# EAGLE library part C610_X99 (library X99 Chipset)
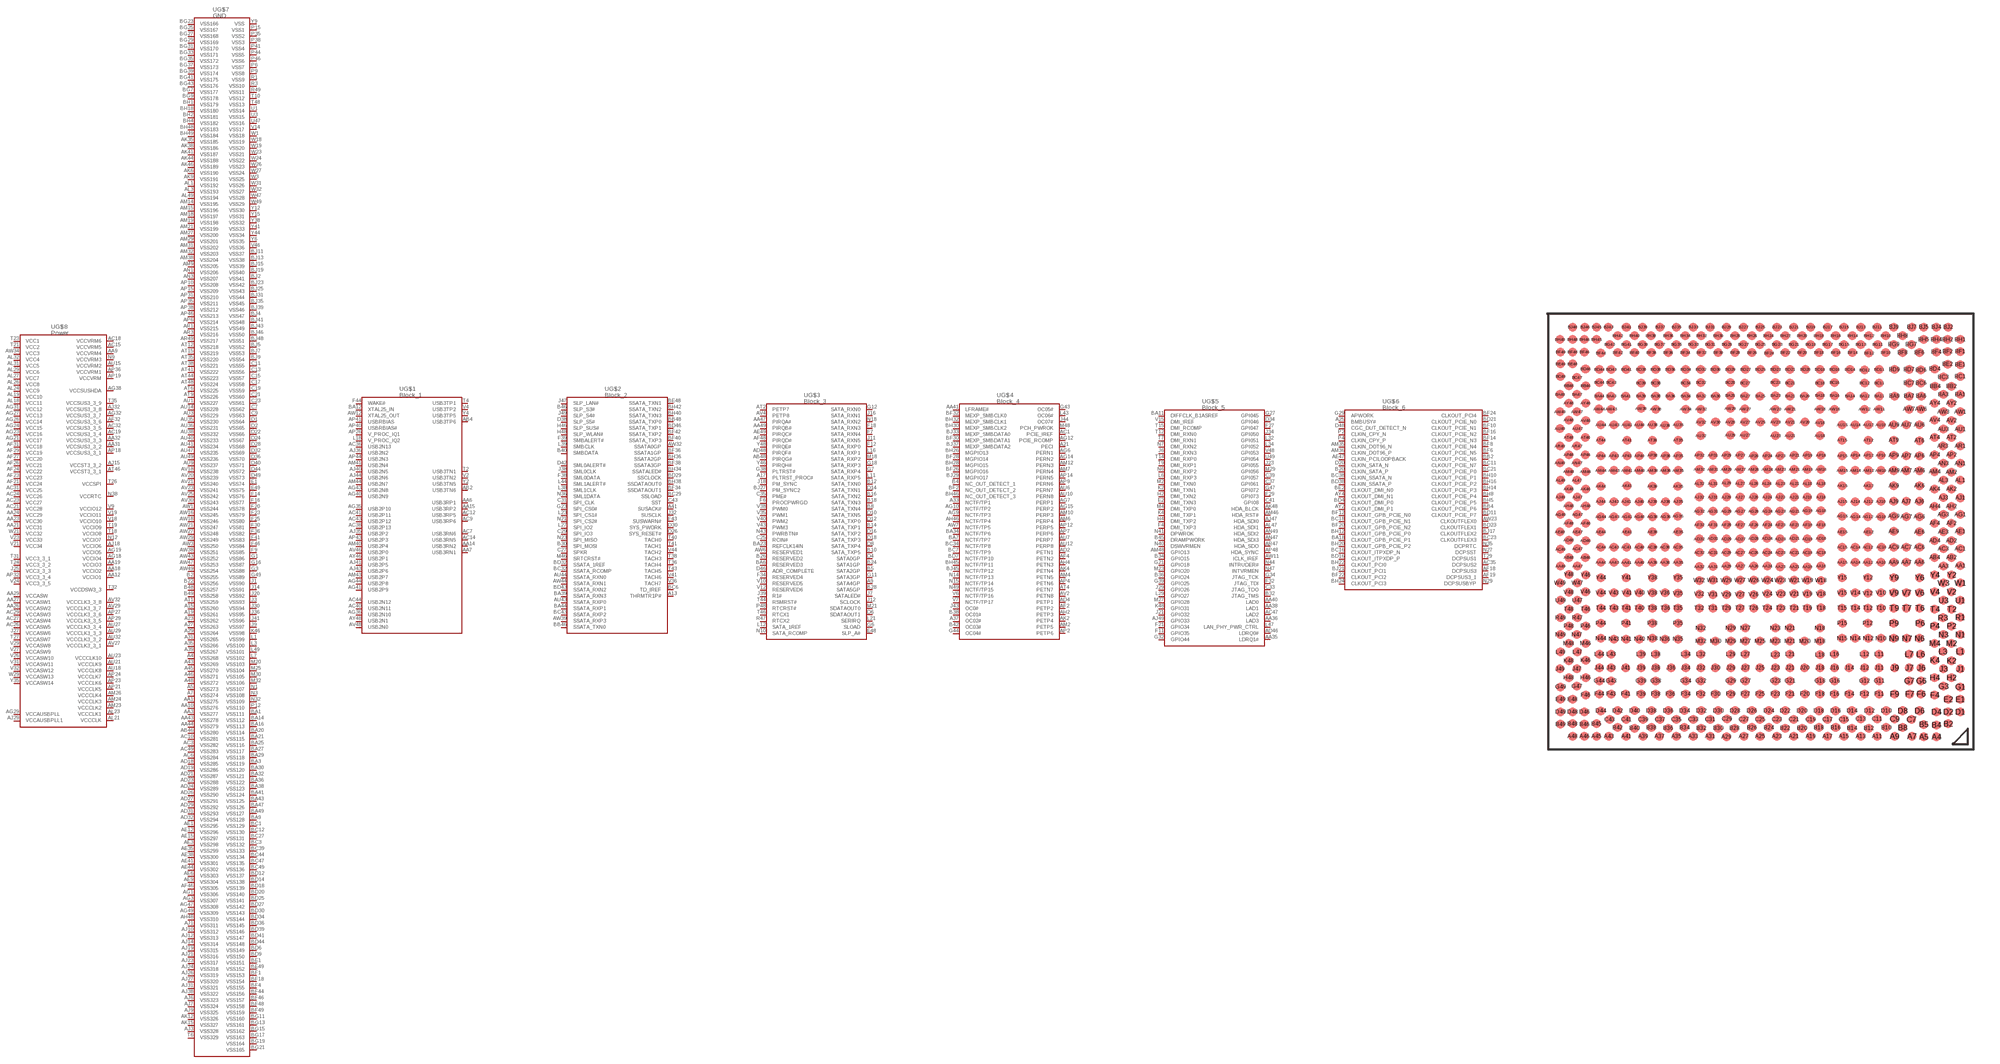
[diagram p0: symbol with the pads of X99; footprint X99]

Designator prefix -; gates G$1=C610_1 G$2=C610_2 G$3=C610_3 G$4=C610_4 G$5=C610_5 G$6=C610_6 G$7=C610_GND G$8=C610_PWR

## C610_X99  [X99]
A4  G$7:VSS268
A5  G$7:VSS273
A7  G$7:VSS274
A9  G$3:SATA4GP
A11  G$7:VSS259
A13  G$2:THRMTR1P#
A15  G$7:VSS260
A17  G$3:PLTRST_PROC#
A19  G$7:VSS261
A21  G$4:PECI
A23  G$7:VSS262
A25  G$6:BMBUSY#
A27  G$7:VSS263
A29  G$7:VSS264
A31  G$7:VSS265
A33  G$4:NCTF/TP1
A35  G$7:VSS266
A37  G$4:OC02#
A39  G$7:VSS267
A41  G$2:SUSACK#
A43  G$7:VSS269
A45  G$7:VSS270
A46  G$7:VSS271
A48  G$7:VSS272
AA1  G$7:VSS275
AA3  G$7:VSS277
AA6  G$1:USB3RP1
AA7  G$1:USB3RN1
AA9  G$8:VCCVRM4
AA10  G$7:VSS276
AA12  G$8:VCCIO1
AA14  G$1:USB3RN2
AA15  G$1:USB3RP2
AA18  G$8:VCCIO2
AA19  G$8:VCCIO3
AA21  G$8:VCC31
AA23  G$8:VCC30
AA24  G$8:VCC29
AA26  G$8:VCCASW2
AA27  G$8:VCCASW1
AA29  G$8:VCCASW
AA31  G$8:VCCSUS3_3_2
AA32  G$8:VCCSUS3_3_3
AA35  G$5:LDRQ1#
AA36  G$5:LAD3
AA38  G$5:LAD1
AA40  G$5:LAD0
AA41  G$4:LFRAME#
AA43  G$7:VSS278
AA44  G$7:VSS279
AA47  G$3:PIRQA#
AA49  G$3:PIRQB#
AB2  G$1:USB3TN6
AB4  G$1:USB3TP6
AB46  G$7:VSS280
AB48  G$3:PIRQG#
AC1  G$4:PCIE_IREF
AC3  G$7:VSS282
AC6  G$7:VSS284
AC7  G$1:USB3RN6
AC9  G$1:USB3RP6
AC10  G$7:VSS281
AC12  G$1:USB3RP5
AC14  G$1:USB3RN5
AC15  G$8:VCCVRM5
AC18  G$8:VCCVRM6
AC19  G$8:VCCSUS3_3_4
AC21  G$8:VCC28
AC23  G$8:VCC27
AC24  G$8:VCC26
AC26  G$8:VCCASW5
AC27  G$8:VCCASW4
AC29  G$8:VCCASW3
AC31  G$8:VCC25
AC32  G$8:VCCSUS3_3_5
AC35  G$6:DCPSUS2
AC36  G$1:USB2N13
AC38  G$1:USB2P13
AC40  G$1:USB2N11
AC41  G$1:USB2P11
AC43  G$1:USB2P12
AC44  G$1:USB2N12
AC47  G$5:LAD2
AC49  G$7:VSS283
AD2  G$4:PETN1
AD4  G$4:PETP1
AD18  G$7:VSS285
AD19  G$7:VSS286
AD21  G$7:VSS287
AD23  G$7:VSS288
AD24  G$7:VSS289
AD26  G$7:VSS290
AD27  G$7:VSS291
AD29  G$7:VSS292
AD31  G$7:VSS293
AD32  G$7:VSS294
AD46  G$5:LDRQ0#
AD48  G$3:PIRQF#
AE1  G$7:VSS295
AE3  G$7:VSS298
AE6  G$7:VSS303
AE9  G$7:VSS304
AE12  G$7:VSS296
AE15  G$7:VSS297
AE35  G$7:VSS299
AE38  G$7:VSS300
AE41  G$7:VSS301
AE44  G$7:VSS302
AE47  G$6:CLKIN_PCILOOPBACK
AE49  G$3:PIRQC#
AF2  G$4:PETP2
AF4  G$4:PETN2
AF18  G$6:DCPSUS3
AF19  G$6:DCPSUS3_1
AF21  G$8:VCC24
AF23  G$8:VCC23
AF24  G$8:VCC22
AF26  G$8:VCC21
AF27  G$8:VCC20
AF29  G$8:VCC19
AF31  G$8:VCC18
AF32  G$8:VCCSUS3_3_6
AF46  G$7:VSS305
AF48  G$3:PIRQD#
AG1  G$7:VSS306
AG3  G$7:VSS307
AG6  G$4:PERN1
AG7  G$4:PERP1
AG9  G$4:NCTF/TP3
AG10  G$4:NCTF/TP2
AG12  G$4:PCIE_RCOMP
AG14  G$4:PERN2
AG15  G$4:PERP2
AG18  G$8:VCCIO4
AG19  G$8:VCCIO5
AG21  G$8:VCC17
AG23  G$8:VCC16
AG24  G$8:VCC15
AG26  G$8:VCC14
AG27  G$8:VCC13
AG29  G$8:VCCAUSBPLL
AG31  G$8:VCC12
AG32  G$8:VCCSUS3_3_7
AG35  G$1:USB2P10
AG36  G$1:USB2N10
AG38  G$8:VCCSUSHDA
AG40  G$1:USB2N9
AG41  G$1:USB2P9
AG43  G$1:USB2N8
AG44  G$1:USB2P8
AG47  G$7:VSS308
AG49  G$7:VSS309
AH2  G$4:PETP3
AH4  G$4:PETN3
AH46  G$4:NCTF/TP4
AH48  G$7:VSS310
AJ1  G$7:VSS311
AJ3  G$7:VSS328
AJ6  G$7:VSS323
AJ7  G$7:VSS324
AJ9  G$7:VSS325
AJ10  G$7:VSS312
AJ12  G$7:VSS313
AJ14  G$7:VSS314
AJ15  G$8:VCCST3_3_2
AJ18  G$8:VCCIO6
AJ19  G$7:VSS315
AJ21  G$7:VSS316
AJ23  G$7:VSS317
AJ24  G$7:VSS318
AJ26  G$7:VSS319
AJ27  G$7:VSS320
AJ29  G$8:VCCAUSBPLL1
AJ31  G$7:VSS321
AJ32  G$8:VCCSUS3_3_8
AJ35  G$1:USB2P2
AJ36  G$1:USB2N2
AJ38  G$7:VSS322
AJ40  G$1:USB2N5
AJ41  G$1:USB2P5
AJ43  G$1:USB2P6
AJ44  G$1:USB2N6
AJ47  G$5:HDA_SDI0
AJ49  G$5:GPIO33
AK2  G$4:PETP4
AK4  G$4:PETN4
AK6  G$7:VSS190
AK9  G$7:VSS191
AK12  G$7:VSS326
AK15  G$7:VSS327
AK35  G$7:VSS185
AK38  G$7:VSS186
AK41  G$7:VSS187
AK44  G$7:VSS188
AK46  G$7:VSS189
AK48  G$5:HDA_BLCK
AL1  G$7:VSS192
AL3  G$7:VSS193
AL18  G$8:VCC11
AL19  G$8:VCC10
AL21  G$8:VCCCLK
AL23  G$8:VCCCLK1
AL24  G$8:VCC9
AL26  G$8:VCC8
AL27  G$8:VCC7
AL29  G$8:VCC6
AL31  G$8:VCC5
AL32  G$8:VCC4
AL47  G$5:HDA_SDI1
AL49  G$7:VSS194
AM2  G$4:PETP5
AM4  G$4:PETN5
AM6  G$4:PERP4
AM7  G$4:PERN4
AM9  G$7:VSS205
AM10  G$4:PERP3
AM12  G$4:PERN3
AM14  G$7:VSS195
AM15  G$7:VSS196
AM18  G$7:VSS197
AM19  G$7:VSS198
AM21  G$7:VSS199
AM23  G$8:VCCCLK2
AM24  G$8:VCCCLK3
AM26  G$8:VCCCLK4
AM27  G$7:VSS200
AM29  G$7:VSS201
AM31  G$7:VSS202
AM32  G$7:VSS203
AM35  G$6:CLKIN_DOT96_N
AM36  G$6:CLKIN_DOT96_P
AM38  G$7:VSS204
AM40  G$1:USB2P4
AM41  G$1:USB2N4
AM43  G$1:USB2P7
AM44  G$1:USB2N7
AM46  G$5:HDA_RST#
AM48  G$5:GPIO13
AN1  G$7:VSS206
AN3  G$7:VSS207
AN47  G$5:HDA_SDI3
AN49  G$5:HDA_SDI2
AP2  G$4:PETP6
AP4  G$4:PETN6
AP6  G$7:VSS214
AP7  G$4:PERP6
AP9  G$4:PERN6
AP10  G$7:VSS208
AP12  G$4:PERP5
AP14  G$4:PERN5
AP15  G$7:VSS209
AP18  G$8:VCCSUS3_3_1
AP19  G$8:VCCVRM
AP21  G$8:VCCCLK5
AP23  G$8:VCCCLK6
AP24  G$8:VCCCLK7
AP26  G$1:V_PROC_IQ1
AP27  G$8:VCCCLK3_3_6
AP29  G$8:VCCCLK3_3_5
AP31  G$7:VSS210
AP32  G$8:VCC3_3_4
AP35  G$7:VSS211
AP36  G$8:VCCVRM1
AP38  G$7:VSS212
AP40  G$1:USBRBIAS#
AP41  G$1:USBRBIAS
AP43  G$1:USB2P3
AP44  G$1:USB2N3
AP46  G$7:VSS213
AP48  G$5:HDA_SYNC
AR1  G$7:VSS215
AR3  G$7:VSS216
AR47  G$5:HDA_SDO
AR49  G$7:VSS217
AT2  G$3:PETP7
AT4  G$4:PETN7
AT6  G$7:VSS225
AT9  G$7:VSS226
AT12  G$7:VSS218
AT15  G$7:VSS219
AT35  G$7:VSS220
AT38  G$7:VSS221
AT41  G$7:VSS222
AT44  G$7:VSS223
AT46  G$8:VCCST3_3_1
AT48  G$7:VSS224
AU1  G$7:VSS227
AU3  G$7:VSS229
AU6  G$4:PERN7
AU7  G$4:PERP7
AU9  G$7:VSS237
AU10  G$4:PERN8
AU12  G$4:PERP8
AU14  G$7:VSS228
AU15  G$8:VCCVRM2
AU18  G$8:VCCCLK8
AU21  G$8:VCCCLK9
AU23  G$8:VCCCLK10
AU27  G$8:VCCCLK3_3_4
AU29  G$8:VCCCLK3_3_3
AU32  G$8:VCCCLK3_3_2
AU35  G$7:VSS230
AU36  G$7:VSS231
AU38  G$7:VSS232
AU40  G$7:VSS233
AU41  G$7:VSS234
AU43  G$2:SSATA_RXP0
AU44  G$2:SSATA_RXN0
AU47  G$7:VSS235
AU49  G$7:VSS236
AV2  G$4:PETN8
AV4  G$3:PETP8
AV18  G$7:VSS238
AV20  G$7:VSS239
AV21  G$7:VSS240
AV23  G$7:VSS241
AV25  G$7:VSS242
AV27  G$8:VCCCLK3_3_1
AV29  G$8:VCCCLK3_3_7
AV30  G$7:VSS243
AV32  G$8:VCCCLK3_3_8
AV46  G$1:USB2P0
AV48  G$1:USB2N0
AW1  G$7:VSS244
AW3  G$7:VSS250
AW6  G$3:RESERVED1
AW7  G$4:NCTF/TP5
AW11  G$5:ICLK_IREF
AW12  G$1:XTAL25_OUT
AW16  G$7:VSS245
AW18  G$7:VSS246
AW21  G$7:VSS247
AW23  G$6:CLKOUTFLEX0
AW27  G$7:VSS248
AW29  G$7:VSS249
AW32  G$2:SSATA0GP
AW34  G$8:VCC3
AW38  G$7:VSS251
AW39  G$2:SSATA_RXP3
AW43  G$7:VSS252
AW44  G$2:SSATA_RXN1
AW47  G$7:VSS253
AW49  G$7:VSS254
AY2  G$6:CLKOUT_DMI_P1
AY4  G$6:CLKOUT_DMI_N1
AY46  G$1:USB2P1
AY48  G$1:USB2N1
B2  G$7:VSS255
B4  G$4:NC_OUT_DETECT_1
B5  G$3:SATA2GP
B8  G$3:SATA_TXN4
B10  G$3:SATA_TXP5
B12  G$3:SATA_TXN0
B14  G$3:SATA_TXP1
B16  G$3:SATA_TXN2
B18  G$3:SATA_TXN3
B20  G$6:CLKIN_SATA_P
B22  G$7:VSS256
B24  G$3:SATA1GP
B26  G$3:RESERVED2
B28  G$3:SATA5GP
B30  G$2:SPI_MOSI
B32  G$5:JTAG_TMS
B34  G$5:GPIO15
B36  G$5:GPIO24
B38  G$4:OC01#
B40  G$2:SMBDATA
B42  G$4:OC03#
B45  G$5:DRAMPWORK
B46  G$2:SLP_S3#
B48  G$7:VSS257
B49  G$7:VSS258
BA1  G$7:VSS111
BA3  G$7:VSS119
BA6  G$3:RESERVED3
BA7  G$4:NCTF/TP7
BA9  G$7:VSS128
BA11  G$5:DIFFCLK_B1ASREF
BA12  G$1:XTAL25_IN
BA14  G$7:VSS112
BA16  G$7:VSS113
BA18  G$6:CLKOUT_GPB_PCIE_P1
BA20  G$7:VSS114
BA21  G$7:VSS115
BA23  G$3:REFCLK14IN
BA25  G$7:VSS116
BA27  G$7:VSS117
BA29  G$7:VSS118
BA30  G$7:VSS120
BA32  G$7:VSS121
BA34  G$4:NCTF/TP6
BA36  G$7:VSS122
BA38  G$7:VSS123
BA39  G$2:SSATA_RXN3
BA41  G$7:VSS124
BA43  G$7:VSS125
BA44  G$2:SSATA_RXP1
BA47  G$7:VSS126
BA49  G$7:VSS127
BB2  G$6:CLKOUT_PCIE_N6
BB4  G$6:CLKOUT_PCIE_P6
BB46  G$2:SSATA_TXN0
BB48  G$2:SSATA_TXP0
BC1  G$7:VSS129
BC3  G$7:VSS132
BC6  G$2:TD_IREF
BC7  G$4:NCTF/TP9
BC11  G$6:CLKOUT_PCIE_N7
BC12  G$7:VSS130
BC16  G$6:CLKOUT_ITPXDP_N
BC18  G$6:CLKOUT_GPB_PCIE_N1
BC21  G$6:CLKOUT_PCIE_P0
BC23  G$6:CLKOUTFLEX3
BC27  G$7:VSS131
BC29  G$2:SSLOAD
BC32  G$2:SSATA_RCOMP
BC34  G$4:NCTF/TP8
BC38  G$6:CLKIN_SSATA_N
BC39  G$7:VSS133
BC43  G$2:SSATA_RXP2
BC44  G$7:VSS134
BC47  G$7:VSS135
BC49  G$7:VSS136
BD4  G$6:CLKOUT_DMI_P0
BD6  G$7:VSS149
BD7  G$4:NCTF/TP10
BD9  G$7:VSS150
BD11  G$6:CLKOUT_PCIE_P7
BD12  G$7:VSS137
BD14  G$7:VSS138
BD16  G$6:CLKOUT_ITPXDP_P
BD18  G$7:VSS139
BD20  G$7:VSS140
BD21  G$6:CLKOUT_PCIE_N0
BD23  G$6:CLKOUTFLEX1
BD25  G$7:VSS141
BD27  G$7:VSS142
BD29  G$2:SSCLOCK
BD30  G$7:VSS143
BD32  G$2:SSATA_1REF
BD34  G$7:VSS144
BD36  G$7:VSS145
BD38  G$6:CLKIN_SSATA_P
BD39  G$7:VSS146
BD41  G$7:VSS147
BD43  G$2:SSATA_RXN2
BD44  G$7:VSS148
BD46  G$2:SSATA_TXP1
BE1  G$7:VSS151
BE2  G$6:CLKOUT_DMI_N0
BE48  G$2:SSATA_TXN1
BE49  G$7:VSS152
BF1  G$7:VSS153
BF2  G$4:NC_OUT_DETECT_2
BF4  G$7:VSS155
BF6  G$6:CLKOUT_PCIE_N5
BF8  G$6:CLKOUT_PCIE_N4
BF10  G$6:CLKOUT_PCIE_N1
BF12  G$6:CLKOUT_GPB_PCIE_N0
BF14  G$6:CLKOUT_PCIE_N3
BF16  G$6:CLKOUT_PCIE_N2
BF18  G$7:VSS154
BF20  G$6:CLKOUT_GPB_PCIE_N2
BF22  G$6:CLKOUT_PCI2
BF24  G$6:CLKOUT_PCI4
BF26  G$4:MGPIO16
BF28  G$4:MGPIO14
BF30  G$4:MEXP_SMBDATA1
BF32  G$4:MEXP_SMBCLK0
BF34  G$2:SSDATAOUT1
BF36  G$2:SSATA1GP
BF38  G$2:SSATA3GP
BF40  G$2:SSATA_TXP3
BF42  G$2:SSATA_TXP2
BF44  G$7:VSS156
BF46  G$7:VSS157
BF48  G$7:VSS158
BF49  G$7:VSS159
BG7  G$7:VSS177
BG9  G$7:VSS178
BG11  G$7:VSS160
BG13  G$7:VSS161
BG15  G$7:VSS162
BG17  G$7:VSS163
BG19  G$7:VSS164
BG21  G$7:VSS165
BG23  G$7:VSS166
BG25  G$7:VSS167
BG27  G$7:VSS168
BG29  G$7:VSS169
BG31  G$7:VSS170
BG33  G$7:VSS171
BG35  G$7:VSS172
BG37  G$7:VSS173
BG39  G$7:VSS174
BG41  G$7:VSS175
BG43  G$7:VSS176
BH1  G$7:VSS179
BH2  G$7:VSS181
BH4  G$7:VSS182
BH5  G$6:CLKOUT_PCIE_P5
BH8  G$6:CLKOUT_PCIE_P4
BH10  G$6:CLKOUT_PCIE_P1
BH12  G$6:CLKOUT_GPB_PCIE_P0
BH14  G$6:CLKOUT_PCIE_P3
BH16  G$6:CLKOUT_PCIE_P2
BH18  G$7:VSS180
BH20  G$6:CLKOUT_GPB_PCIE_P2
BH22  G$6:CLKOUT_PCI0
BH24  G$6:CLKOUT_PCI3
BH26  G$4:MGPIO13
BH28  G$4:MGPIO15
BH30  G$4:MEXP_SMBCLK2
BH32  G$4:MEXP_SMBCLK1
BH34  G$2:SSATALED#
BH36  G$2:SSATA2GP
BH38  G$2:SSDATAOUT0
BH40  G$2:SSATA_TXN3
BH42  G$2:SSATA_TXN2
BH45  G$4:NCTF/TP11
BH46  G$4:NC_OUT_DETECT_3
BH48  G$7:VSS183
BH49  G$7:VSS184
BJ2  G$7:VSS41
BJ4  G$7:VSS47
BJ5  G$7:VSS52
BJ7  G$7:VSS53
BJ9  G$7:VSS54
BJ11  G$7:VSS37
BJ13  G$7:VSS38
BJ15  G$7:VSS39
BJ17  G$6:CLKOUTFLEX2
BJ19  G$7:VSS40
BJ21  G$6:CLKOUT_PCI1
BJ23  G$7:VSS42
BJ25  G$7:VSS43
BJ27  G$3:PM_SYNC2
BJ29  G$4:MGPIO17
BJ31  G$7:VSS44
BJ33  G$4:MEXP_SMBDATA0
BJ35  G$7:VSS45
BJ37  G$4:MEXP_SMBDATA2
BJ39  G$7:VSS46
BJ41  G$7:VSS48
BJ43  G$7:VSS49
BJ45  G$4:NCTF/TP12
BJ46  G$7:VSS50
BJ48  G$7:VSS51
C7  G$7:VSS62
C9  G$7:VSS63
C11  G$7:VSS55
C13  G$7:VSS56
C15  G$7:VSS57
C17  G$7:VSS58
C19  G$7:VSS59
C21  G$7:VSS60
C23  G$7:VSS61
C25  G$3:RCIN#
C27  G$2:SPKR
C29  G$2:SPI_IO3
C31  G$2:SPI_CLK
C33  G$5:JTAG_TDO
C35  G$3:PME#
C37  G$5:GPI061
C39  G$5:GPI057
C41  G$5:GPI08
C43  G$2:SST
D1  G$7:VSS64
D2  G$7:VSS65
D4  G$3:SATA0GP
D6  G$3:SDATAOUT1
D8  G$3:SATA_TXP4
D10  G$3:SATA_TXN5
D12  G$3:SATA_TXP0
D14  G$3:SATA_TXN1
D16  G$3:SATA_TXP2
D18  G$3:SATA_TXP3
D20  G$6:CLKIN_SATA_N
D22  G$7:VSS66
D24  G$7:VSS67
D26  G$2:SYS_RESET#
D28  G$7:VSS68
D30  G$2:SYS_PWORK
D32  G$7:VSS69
D34  G$5:GPI046
D36  G$7:VSS70
D38  G$2:SLP_S5#
D40  G$7:VSS71
D42  G$2:SML0ALERT#
D44  G$7:VSS72
D46  G$3:ADR_COMPLETE
D48  G$6:CGC_DUT_DETECT_N
D49  G$7:VSS73
E1  G$7:VSS74
E2  G$5:DMI_TXN3
E48  G$3:SLP_A#
E49  G$7:VSS75
F4  G$5:DMI_TXP3
F6  G$3:PROCPWRGD
F7  G$3:SATA_RXN4
F9  G$7:VSS85
F11  G$5:GPIO35
F12  G$3:SATA_RXP0
F14  G$7:VSS76
F16  G$7:VSS77
F18  G$3:SATA_RXN3
F20  G$7:VSS78
F21  G$5:GPIO34
F23  G$7:VSS79
F25  G$7:VSS80
F27  G$5:GPI047
F29  G$5:GPI073
F30  G$7:VSS81
F32  G$5:JTAG_TDI
F34  G$3:RESERVED4
F36  G$7:VSS82
F38  G$2:SML0DATA
F39  G$2:SMBALERT#
F41  G$7:VSS83
F43  G$2:SUSWARN#
F44  G$1:WAKE#
F46  G$7:VSS84
G1  G$7:VSS86
G3  G$7:VSS88
G6  G$3:SLOAD
G7  G$3:SATA_RXP4
G11  G$3:SATA3GP
G12  G$3:SATA_RXN0
G16  G$7:VSS87
G18  G$3:SATA_RXP3
G21  G$5:GPIO18
G23  G$2:SPI_CS0#
G27  G$5:GPI045
G29  G$6:APWORK
G32  G$5:GPIO44
G34  G$5:JTAG_TCK
G38  G$3:PLTRST#
G39  G$5:GPIO25
G43  G$4:OC05#
G44  G$4:OC04#
G47  G$5:GPI072
G49  G$7:VSS89
H2  G$5:DMI_TXN2
H4  G$5:DMI_TXP2
H46  G$2:SLP_SUS#
H48  G$2:SLP_WLAN#
J1  G$7:VSS90
J3  G$7:VSS93
J6  G$5:DMI_RXN3
J7  G$3:SATALED#
J9  G$7:VSS97
J11  G$3:SATA_RXN5
J12  G$3:SCLOCK
J14  G$7:VSS91
J16  G$3:SATA_RXN1
J18  G$3:PM_SYNC
J20  G$7:VSS92
J21  G$5:GPIO32
J23  G$5:GPI055
J25  G$8:VCC3_3_3
J27  G$8:VCCASW6
J29  G$5:GPIO26
J30  G$7:VSS94
J32  G$2:SUSCLK
J34  G$5:GPI050
J36  G$7:VSS95
J38  G$2:SML0CLK
J39  G$3:R1#
J41  G$7:VSS96
J43  G$4:OC0#
J44  G$4:OC07#
J47  G$2:SLP_LAN#
J49  G$2:SLP_S4#
K2  G$5:DMI_TXN1
K4  G$5:DMI_TXP1
K46  G$7:VSS98
K48  G$5:GPIO31
L1  G$7:VSS99
L3  G$7:VSS100
L6  G$5:DMI_RXP3
L7  G$7:VSS102
L11  G$3:SATA_RXP5
L12  G$3:SATA_1REF
L16  G$3:SATA_RXP1
L18  G$1:V_PROC_IQ2
L21  G$3:SERIRQ
L23  G$2:SPI_CS1#
L27  G$2:SPI_IO2
L29  G$5:GPIO27
L32  G$5:GPI051
L34  G$5:GPI052
L38  G$2:SML1CLK
L39  G$2:SMBCLK
L43  G$4:OC06#
L44  G$2:SML1ALERT#
L47  G$5:LAN_PHY_PWR_CTRL
L49  G$7:VSS101
M2  G$5:DMI_TXN0
M4  G$5:DMI_TXP0
M18  G$3:SATA_RXP2
M20  G$7:VSS103
M21  G$3:SDATAOUT0
M23  G$5:GPIO20
M25  G$7:VSS104
M27  G$5:GPIO28
M29  G$5:GPI056
M30  G$7:VSS105
M32  G$7:VSS106
M46  G$2:SRTCRST#
M48  G$4:PCH_PWROK
N1  G$7:VSS107
N3  G$7:VSS108
N6  G$5:DMI_RXP2
N7  G$5:DMI_RXN2
N9  G$8:VCCVRM3
N10  G$3:SATA_RCOMP
N12  G$8:VCCIO7
N14  G$4:NCTF/TP13
N15  G$4:NCTF/TP14
N18  G$3:SATA_RXN2
N21  G$2:SPI_CS2#
N23  G$2:SPI_MISO
N27  G$6:DCPSST
N29  G$6:DCPSUSBYP
N32  G$7:VSS109
N35  G$6:DCPRTC
N36  G$2:SML1DATA
N38  G$8:VCCRTC
N40  G$5:DSWVRMEN
N41  G$5:DPWROK
N43  G$3:PWRBTN#
N44  G$5:INTRUDER#
N47  G$5:INTVRMEN
N49  G$4:NCTF/TP15
P2  G$6:CLKIN_CPY_N
P4  G$6:CLKIN_CPY_P
P6  G$7:VSS7
P9  G$7:VSS8
P12  G$7:VSS110
P15  G$7:VSS1
P35  G$7:VSS2
P38  G$7:VSS3
P41  G$7:VSS4
P44  G$7:VSS5
P46  G$7:VSS6
P48  G$3:RTCRST#
R1  G$7:VSS9
R3  G$7:VSS10
R47  G$3:RTCX2
R49  G$7:VSS11
T2  G$1:USB3TN1
T4  G$1:USB3TP1
T6  G$7:VSS329
T7  G$5:DMI_RXN1
T9  G$5:DMI_RXP1
T10  G$7:VSS12
T12  G$5:DMI_RXN0
T14  G$5:DMI_RXP0
T15  G$5:DMI_RCOMP
T18  G$8:VCCIO8
T19  G$8:VCCIO9
T21  G$8:VCC2
T23  G$8:VCC1
T24  G$8:VCC3_3_2
T26  G$8:VCCSPI
T27  G$8:VCCASW7
T29  G$6:DCPSUS1
T31  G$8:VCC3_3_1
T32  G$8:VCCDSW3_3
T35  G$8:VCCSUS3_3_9
T36  G$2:TACH4
T38  G$2:TACH3
T40  G$2:TACH0
T41  G$2:TACH1
T43  G$2:TACH5
T44  G$3:RSMRST#
T46  G$3:RTCX1
T48  G$7:VSS13
U1  G$7:VSS14
U3  G$7:VSS15
U47  G$7:VSS16
U49  G$5:GPI054
V2  G$1:USB3TN2
V4  G$1:USB3TP2
V6  G$4:NCTF/TP16
V7  G$4:NCTF/TP17
V9  G$8:VCCIO12
V10  G$3:RESERVED5
V12  G$3:RESERVED6
V14  G$7:VSS17
V15  G$5:DMI_IREF
V18  G$8:VCCIO10
V19  G$8:VCCIO11
V21  G$8:VCC34
V23  G$8:VCC33
V24  G$8:VCC3_3_5
V26  G$8:VCCASW10
V27  G$8:VCCASW9
V29  G$8:VCCASW8
V31  G$8:VCCASW11
V32  G$8:VCCASW12
V35  G$3:PWM1
V36  G$2:TACH7
V38  G$3:PWM0
V40  G$3:PWM2
V41  G$2:TACH6
V43  G$3:PWM3
V44  G$2:TACH2
V46  G$7:VSS36
V48  G$5:GPI053
W1  G$7:VSS18
W3  G$7:VSS25
W18  G$7:VSS19
W19  G$7:VSS20
W21  G$8:VCC32
W23  G$7:VSS21
W24  G$7:VSS22
W26  G$7:VSS23
W27  G$7:VSS24
W29  G$8:VCCASW13
W31  G$7:VSS26
W32  G$7:VSS27
W47  G$7:VSS28
W49  G$7:VSS29
Y2  G$1:USB3TN5
Y4  G$1:USB3TP5
Y6  G$7:VSS35
Y9  G$7:VSS
Y12  G$7:VSS30
Y15  G$7:VSS31
Y35  G$8:VCCASW14
Y38  G$7:VSS32
Y41  G$7:VSS33
Y44  G$7:VSS34
Y46  G$3:PIRQH#
Y48  G$3:PIRQE#

## Footprint X99 (pad centres in mm)
smd 0.5 x 0.5: A4 21.574,0.015; A5 20.852,0.013; A7 20.163,0.045; A9 19.165,0.046; A11 18.167,0.044; A13 17.229,0.044; A15 16.261,0.045; A17 15.321,0.045; A19 14.355,0.045; A21 13.385,0.045; A23 12.415,0.044; A25 11.448,0.046; A27 10.508,0.046; A29 9.51,0.015; A31 8.573,0.047; A33 7.603,0.046; A35 6.635,0.045; A37 5.668,0.045; A39 4.729,0.045; A41 3.759,0.045; A43 2.76,0.045; A45 2.041,0.047; A46 1.355,0.047; A48 0.665,0.047; AA1 22.949,9.854; AA3 21.981,9.826; AA6 20.6,10.049; AA7 19.854,10.046; AA9 19.134,10.046; AA10 18.388,10.046; AA12 17.636,10.046; AA14 16.915,10.049; AA15 16.167,10.049; AA18 14.947,9.833; AA19 14.164,9.794; AA21 13.416,9.794; AA23 12.602,9.796; AA24 11.853,9.83; AA26 11.071,9.83; AA27 10.289,9.83; AA29 9.509,9.826; AA31 8.727,9.797; AA32 7.946,9.797; AA35 6.73,10.043; AA36 5.98,10.043; AA38 5.259,10.043; AA40 4.51,10.043; AA41 3.76,10.038; AA43 3.041,10.046; AA44 2.29,10.045; AA47 0.949,9.827; AA49 -0.019,9.827; AB2 22.446,10.331; AB4 21.477,10.331; AB46 1.413,10.326; AB48 0.448,10.33; AC1 22.948,10.83; AC3 21.979,10.829; AC6 20.601,10.918; AC7 19.853,10.918; AC9 19.134,10.918; AC10 18.416,10.921; AC12 17.634,10.918; AC14 16.916,10.918; AC15 16.164,10.918; AC18 14.948,10.607; AC19 14.165,10.607; AC21 13.414,10.607; AC23 12.603,10.607; AC24 11.852,10.607; AC26 11.07,10.607; AC27 10.291,10.607; AC29 9.508,10.607; AC31 8.729,10.609; AC32 7.952,10.609; AC35 6.727,10.92; AC36 5.978,10.921; AC38 5.26,10.921; AC40 4.512,10.919; AC41 3.761,10.919; AC43 3.039,10.92; AC44 2.291,10.92; AC47 0.946,10.826; AC49 -0.022,10.795; AD2 22.447,11.295; AD4 21.478,11.295; AD18 14.951,11.424; AD19 14.167,11.389; AD21 13.417,11.424; AD23 12.604,11.388; AD24 11.853,11.42; AD26 11.074,11.42; AD27 10.29,11.389; AD29 9.51,11.391; AD31 8.729,11.421; AD32 7.945,11.39; AD46 1.416,11.298; AD48 0.446,11.328; AE1 22.948,11.824; AE3 21.977,11.798; AE6 20.604,11.796; AE9 19.134,11.826; AE12 17.665,11.796; AE15 16.168,11.796; AE35 6.729,11.794; AE38 5.26,11.796; AE41 3.791,11.794; AE44 2.292,11.796; AE47 0.948,11.794; AE49 -0.053,11.794; AF2 22.448,12.295; AF4 21.479,12.296; AF18 14.946,12.2; AF19 14.166,12.201; AF21 13.415,12.201; AF23 12.603,12.201; AF24 11.854,12.202; AF26 11.072,12.202; AF27 10.291,12.202; AF29 9.509,12.202; AF31 8.728,12.202; AF32 7.949,12.202; AF46 1.416,12.294; AF48 0.447,12.296; AG1 22.947,12.795; AG3 21.979,12.796; AG6 20.603,12.672; AG7 19.852,12.672; AG9 19.134,12.703; AG10 18.386,12.669; AG12 17.635,12.671; AG14 16.915,12.671; AG15 16.166,12.704; AG18 14.948,13.016; AG19 14.165,13.016; AG21 13.417,12.985; AG23 12.603,12.985; AG24 11.854,12.984; AG26 11.072,12.984; AG27 10.29,12.984; AG29 9.509,12.984; AG31 8.727,12.984; AG32 7.947,12.984; AG35 6.727,12.703; AG36 6.01,12.672; AG38 5.261,12.672; AG40 4.509,12.67; AG41 3.791,12.67; AG43 3.039,12.67; AG44 2.29,12.67; AG47 0.947,12.795; AG49 -0.021,12.795; AH2 22.447,13.264; AH4 21.481,13.264; AH46 1.417,13.295; AH48 0.447,13.295; AJ1 22.948,13.761; AJ3 21.98,13.763; AJ6 20.605,13.546; AJ7 19.853,13.546; AJ9 19.135,13.546; AJ10 18.386,13.546; AJ12 17.665,13.546; AJ14 16.915,13.544; AJ15 16.168,13.544; AJ18 14.948,13.795; AJ19 14.165,13.794; AJ21 13.415,13.794; AJ23 12.603,13.797; AJ24 11.854,13.797; AJ26 11.072,13.797; AJ27 10.291,13.795; AJ29 9.509,13.795; AJ31 8.729,13.795; AJ32 7.946,13.796; AJ35 6.731,13.546; AJ36 6.009,13.541; AJ38 5.264,13.544; AJ40 4.512,13.544; AJ41 3.76,13.544; AJ43 3.04,13.544; AJ44 2.289,13.547; AJ47 0.947,13.796; AJ49 -0.02,13.796; AK2 22.446,14.264; AK4 21.479,14.264; AK6 20.605,14.453; AK9 19.136,14.452; AK12 17.666,14.453; AK15 16.166,14.452; AK35 6.726,14.419; AK38 5.258,14.423; AK41 3.791,14.453; AK44 2.289,14.422; AK46 1.414,14.264; AK48 0.446,14.264; AL1 22.948,14.765; AL3 21.98,14.765; AL18 14.944,14.576; AL19 14.165,14.577; AL21 13.416,14.578; AL23 12.604,14.576; AL24 11.824,14.579; AL26 11.073,14.579; AL27 10.291,14.581; AL29 9.512,14.609; AL31 8.727,14.576; AL32 7.947,14.578; AL47 0.916,14.764; AL49 -0.018,14.764; AM2 22.445,15.232; AM4 21.478,15.261; AM6 20.604,15.324; AM7 19.855,15.326; AM9 19.135,15.326; AM10 18.386,15.327; AM12 17.667,15.327; AM14 16.916,15.327; AM15 16.165,15.328; AM18 14.947,15.39; AM19 14.165,15.39; AM21 13.415,15.39; AM23 12.604,15.39; AM24 11.855,15.389; AM26 11.073,15.39; AM27 10.29,15.391; AM29 9.511,15.391; AM31 8.729,15.391; AM32 7.947,15.391; AM35 6.729,15.327; AM36 6.009,15.328; AM38 5.258,15.328; AM40 4.51,15.328; AM41 3.792,15.327; AM43 3.042,15.327; AM44 2.29,15.327; AM46 1.416,15.263; AM48 0.447,15.263; AN1 22.946,15.731; AN3 21.977,15.733; AN47 0.917,15.764; AN49 -0.053,15.764; AP2 22.447,16.233; AP4 21.477,16.233; AP6 20.605,16.172; AP7 19.853,16.17; AP9 19.134,16.203; AP10 18.386,16.202; AP12 17.668,16.2; AP14 16.916,16.201; AP15 16.167,16.169; AP18 14.949,16.199; AP19 14.167,16.199; AP21 13.416,16.202; AP23 12.603,16.172; AP24 11.852,16.172; AP26 11.071,16.169; AP27 10.291,16.202; AP29 9.51,16.202; AP31 8.728,16.202; AP32 7.949,16.202; AP35 6.73,16.167; AP36 6.01,16.172; AP38 5.261,16.205; AP40 4.512,16.172; AP41 3.792,16.172; AP43 3.037,16.172; AP44 2.287,16.172; AP46 1.411,16.235; AP48 0.444,16.235; AR1 22.947,16.735; AR3 21.948,16.735; AR47 0.916,16.731; AR49 -0.052,16.731; AT2 22.448,17.233; AT4 21.48,17.233; AT6 20.602,17.047; AT9 19.133,17.076; AT12 17.665,17.075; AT15 16.166,17.075; AT35 6.731,17.076; AT38 5.26,17.076; AT41 3.789,17.076; AT44 2.289,17.076; AT46 1.414,17.23; AT48 0.446,17.23; AU1 22.952,17.7; AU3 21.979,17.7; AU6 20.605,17.951; AU7 19.855,17.951; AU9 19.134,17.951; AU10 18.385,17.951; AU12 17.664,17.954; AU14 16.915,17.951; AU15 16.164,17.951; AU18 14.887,17.329; AU21 13.169,17.329; AU23 12.325,17.327; AU27 10.573,17.358; AU29 9.729,17.358; AU32 8.041,17.33; AU35 6.736,17.955; AU36 5.98,17.92; AU38 5.259,17.955; AU40 4.511,17.951; AU41 3.791,17.951; AU43 3.042,17.951; AU44 2.292,17.952; AU47 0.95,17.735; AU49 -0.052,17.735; AV2 22.447,18.202; AV4 21.48,18.231; AV18 14.886,18.074; AV20 14.014,18.109; AV21 13.169,18.109; AV23 12.324,18.109; AV25 11.452,18.109; AV27 10.574,18.107; AV29 9.73,18.107; AV30 8.886,18.107; AV32 8.042,18.106; AV46 1.416,18.199; AV48 0.448,18.233; AW1 22.95,18.701; AW3 21.982,18.701; AW6 20.696,18.859; AW7 20.008,18.859; AW11 18.288,18.859; AW12 17.445,18.859; AW16 15.725,18.859; AW18 14.883,18.859; AW21 13.166,18.857; AW23 12.32,18.858; AW27 10.575,18.861; AW29 9.731,18.89; AW32 8.043,18.859; AW34 7.166,18.859; AW38 5.447,18.859; AW39 4.603,18.889; AW43 2.884,18.859; AW44 2.195,18.86; AW47 0.915,18.702; AW49 -0.052,18.702; AY2 22.444,19.205; AY4 21.479,19.205; AY46 1.417,19.204; AY48 0.447,19.204; B2 22.26,0.762; B4 21.573,0.7; B5 20.853,0.732; B8 19.635,0.546; B10 18.698,0.546; B12 17.698,0.516; B14 16.728,0.516; B16 15.791,0.546; B18 14.822,0.546; B20 13.854,0.516; B22 12.885,0.516; B24 11.948,0.545; B26 10.979,0.544; B28 9.979,0.514; B30 9.041,0.516; B32 8.071,0.516; B34 7.104,0.547; B36 6.165,0.516; B38 5.197,0.547; B40 4.228,0.516; B42 3.258,0.547; B45 2.041,0.763; B46 1.354,0.733; B48 0.666,0.762; B49 -0.022,0.734; BA1 22.946,19.702; BA3 21.977,19.702; BA6 20.703,19.609; BA7 20.011,19.61; BA9 19.167,19.61; BA11 18.294,19.61; BA12 17.45,19.61; BA14 16.606,19.61; BA16 15.728,19.638; BA18 14.885,19.641; BA20 14.011,19.608; BA21 13.166,19.608; BA23 12.325,19.641; BA25 11.448,19.608; BA27 10.572,19.608; BA29 9.726,19.64; BA30 8.887,19.608; BA32 8.045,19.608; BA34 7.167,19.608; BA36 6.289,19.608; BA38 5.446,19.608; BA39 4.604,19.608; BA41 3.726,19.608; BA43 2.883,19.608; BA44 2.196,19.608; BA47 0.917,19.7; BA49 -0.053,19.7; BB2 22.447,20.171; BB4 21.507,20.171; BB46 1.415,20.2; BB48 0.449,20.2; BC1 22.948,20.733; BC3 21.979,20.7; BC6 20.698,20.355; BC7 20.011,20.355; BC11 18.292,20.357; BC12 17.448,20.357; BC16 15.726,20.387; BC18 14.883,20.355; BC21 13.165,20.359; BC23 12.321,20.392; BC27 10.572,20.358; BC29 9.728,20.388; BC32 8.043,20.388; BC34 7.165,20.358; BC38 5.45,20.357; BC39 4.603,20.357; BC43 2.885,20.389; BC44 2.199,20.392; BC47 0.914,20.673; BC49 -0.021,20.735; BD4 21.483,21.172; BD6 20.696,21.104; BD7 20.01,21.137; BD9 19.166,21.137; BD11 18.288,21.137; BD12 17.449,21.104; BD14 16.605,21.137; BD16 15.727,21.137; BD18 14.884,21.137; BD20 14.042,21.141; BD21 13.167,21.141; BD23 12.323,21.14; BD25 11.449,21.14; BD27 10.605,21.14; BD29 9.731,21.14; BD30 8.883,21.14; BD32 8.042,21.14; BD34 7.165,21.14; BD36 6.288,21.138; BD38 5.446,21.138; BD39 4.603,21.138; BD41 3.759,21.138; BD43 2.884,21.138; BD44 2.197,21.138; BD46 1.414,21.169; BE1 22.947,21.418; BE2 22.226,21.445; BE48 0.664,21.452; BE49 -0.023,21.452; BF1 22.945,22.172; BF2 22.225,22.172; BF4 21.57,22.14; BF6 20.606,22.109; BF8 19.638,22.109; BF10 18.665,22.11; BF12 17.698,22.077; BF14 16.76,22.108; BF16 15.792,22.108; BF18 14.823,22.108; BF20 13.855,22.108; BF22 12.886,22.107; BF24 11.953,22.078; BF26 10.977,22.104; BF28 10.009,22.11; BF30 9.042,22.107; BF32 8.069,22.107; BF34 7.137,22.107; BF36 6.164,22.107; BF38 5.196,22.107; BF40 4.229,22.107; BF42 3.264,22.107; BF44 2.291,22.078; BF46 1.356,22.14; BF48 0.669,22.14; BF49 -0.017,22.14; BG7 20.135,22.577; BG9 19.132,22.577; BG11 18.199,22.577; BG13 17.229,22.577; BG15 16.261,22.577; BG17 15.322,22.577; BG19 14.355,22.577; BG21 13.385,22.577; BG23 12.418,22.577; BG25 11.448,22.577; BG27 10.481,22.577; BG29 9.541,22.579; BG31 8.573,22.579; BG33 7.603,22.579; BG35 6.635,22.579; BG37 5.668,22.577; BG39 4.7,22.577; BG41 3.762,22.577; BG43 2.796,22.577; BH1 22.947,22.858; BH2 22.228,22.858; BH4 21.573,22.858; BH5 20.853,22.859; BH8 19.637,23.077; BH10 18.668,23.077; BH12 17.698,23.077; BH14 16.761,23.077; BH16 15.791,23.077; BH18 14.822,23.077; BH20 13.856,23.077; BH22 12.887,23.077; BH24 11.917,23.077; BH26 10.979,23.077; BH28 10.009,23.078; BH30 9.042,23.076; BH32 8.071,23.077; BH34 7.136,23.077; BH36 6.166,23.079; BH38 5.166,23.077; BH40 4.229,23.076; BH42 3.26,23.075; BH45 2.04,22.857; BH46 1.354,22.857; BH48 0.666,22.857; BH49 -0.053,22.857; BJ2 22.26,23.577; BJ4 21.572,23.577; BJ5 20.852,23.577; BJ7 20.167,23.578; BJ9 19.135,23.578; BJ11 18.167,23.578; BJ13 17.229,23.576; BJ15 16.26,23.576; BJ17 15.323,23.576; BJ19 14.354,23.577; BJ21 13.385,23.575; BJ23 12.418,23.575; BJ25 11.448,23.575; BJ27 10.481,23.575; BJ29 9.511,23.575; BJ31 8.573,23.578; BJ33 7.604,23.578; BJ35 6.636,23.577; BJ37 5.698,23.577; BJ39 4.698,23.576; BJ41 3.761,23.576; BJ43 2.73,23.576; BJ45 2.043,23.576; BJ46 1.386,23.577; BJ48 0.668,23.577; C7 20.135,1.013; C9 19.167,1.045; C11 18.166,1.045; C13 17.227,1.046; C15 16.26,1.013; C17 15.323,1.013; C19 14.353,1.013; C21 13.385,1.017; C23 12.416,1.017; C25 11.448,1.017; C27 10.51,1.017; C29 9.541,1.047; C31 8.573,1.017; C33 7.605,1.017; C35 6.632,1.011; C37 5.693,1.011; C39 4.726,1.011; C41 3.759,1.011; C43 2.791,1.011; D1 22.945,1.452; D2 22.258,1.452; D4 21.571,1.452; D6 20.604,1.515; D8 19.637,1.515; D10 18.698,1.515; D12 17.731,1.515; D14 16.729,1.515; D16 15.791,1.515; D18 14.823,1.515; D20 13.855,1.517; D22 12.887,1.517; D24 11.947,1.517; D26 10.979,1.517; D28 10.011,1.517; D30 9.043,1.517; D32 8.075,1.517; D34 7.103,1.516; D36 6.165,1.516; D38 5.197,1.516; D40 4.23,1.516; D42 3.263,1.516; D44 2.294,1.512; D46 1.357,1.449; D48 0.669,1.449; D49 -0.018,1.449; E1 22.948,2.17; E2 22.26,2.171; E48 0.666,2.172; E49 -0.021,2.171; F4 21.479,2.421; F6 20.697,2.484; F7 20.042,2.484; F9 19.166,2.482; F11 18.292,2.483; F12 17.447,2.485; F14 16.573,2.483; F16 15.729,2.482; F18 14.886,2.484; F20 14.012,2.484; F21 13.167,2.484; F23 12.321,2.483; F25 11.447,2.483; F27 10.605,2.482; F29 9.761,2.482; F30 8.885,2.482; F32 8.041,2.482; F34 7.167,2.482; F36 6.291,2.482; F38 5.448,2.482; F39 4.604,2.482; F41 3.73,2.482; F43 2.883,2.483; F44 2.197,2.485; F46 1.415,2.42; G1 22.944,2.89; G3 21.979,2.923; G6 20.698,3.235; G7 20.009,3.235; G11 18.292,3.232; G12 17.447,3.232; G16 15.73,3.235; G18 14.886,3.235; G21 13.164,3.236; G23 12.323,3.236; G27 10.603,3.233; G29 9.76,3.233; G32 8.042,3.233; G34 7.165,3.233; G38 5.447,3.233; G39 4.603,3.233; G43 2.885,3.234; G44 2.198,3.234; G47 0.916,2.92; G49 -0.021,2.889; H2 22.447,3.422; H4 21.478,3.422; H46 1.416,3.419; H48 0.447,3.422; J1 22.948,3.92; J3 21.978,3.92; J6 20.697,3.982; J7 20.011,3.984; J9 19.167,3.984; J11 18.292,3.985; J12 17.445,3.982; J14 16.571,3.982; J16 15.725,3.984; J18 14.883,3.984; J20 14.008,3.984; J21 13.167,3.983; J23 12.323,3.983; J25 11.445,3.983; J27 10.606,3.983; J29 9.762,3.983; J30 8.885,3.983; J32 8.04,3.983; J34 7.166,3.983; J36 6.324,3.983; J38 5.447,3.983; J39 4.604,3.982; J41 3.728,3.983; J43 2.886,3.983; J44 2.197,3.983; J47 0.917,3.92; J49 -0.052,3.92; K2 22.447,4.389; K4 21.48,4.419; K46 1.419,4.419; K48 0.448,4.389; L1 22.948,4.921; L3 21.948,4.921; L6 20.666,4.765; L7 20.01,4.765; L11 18.289,4.763; L12 17.446,4.763; L16 15.726,4.763; L18 14.883,4.732; L21 13.167,4.765; L23 12.328,4.736; L27 10.6,4.764; L29 9.76,4.764; L32 8.044,4.764; L34 7.166,4.764; L38 5.447,4.761; L39 4.603,4.764; L43 2.886,4.766; L44 2.198,4.763; L47 0.949,4.889; L49 -0.021,4.889; M2 22.445,5.391; M4 21.478,5.391; M18 14.885,5.513; M20 14.009,5.511; M21 13.164,5.514; M23 12.323,5.514; M25 11.446,5.514; M27 10.602,5.514; M29 9.759,5.515; M30 8.885,5.513; M32 8.043,5.516; M46 1.416,5.39; M48 0.448,5.387; N1 22.947,5.891; N3 21.978,5.892; N6 20.604,5.671; N7 19.883,5.671; N9 19.133,5.671; N10 18.385,5.671; N12 17.665,5.674; N14 16.915,5.671; N15 16.166,5.672; N18 14.887,6.264; N21 13.166,6.266; N23 12.32,6.265; N27 10.605,6.268; N29 9.761,6.268; N32 8.042,6.264; N35 6.729,5.64; N36 5.978,5.64; N38 5.258,5.67; N40 4.511,5.64; N41 3.76,5.64; N43 3.04,5.64; N44 2.29,5.673; N47 0.917,5.889; N49 -0.02,5.889; P2 22.447,6.389; P4 21.48,6.389; P6 20.633,6.549; P9 19.134,6.549; P12 17.634,6.549; P15 16.169,6.549; P35 6.732,6.546; P38 5.26,6.548; P41 3.758,6.548; P44 2.289,6.548; P46 1.415,6.388; P48 0.45,6.388; R1 22.947,6.889; R3 21.948,6.858; R47 0.945,6.86; R49 -0.021,6.859; T2 22.445,7.356; T4 21.477,7.356; T6 20.604,7.42; T7 19.853,7.42; T9 19.134,7.42; T10 18.387,7.42; T12 17.636,7.42; T14 16.916,7.419; T15 16.166,7.42; T18 14.947,7.423; T19 14.166,7.422; T21 13.415,7.419; T23 12.635,7.419; T24 11.855,7.42; T26 11.072,7.42; T27 10.292,7.42; T29 9.509,7.419; T31 8.728,7.419; T32 7.946,7.419; T35 6.728,7.419; T36 6.009,7.419; T38 5.261,7.419; T40 4.509,7.419; T41 3.761,7.419; T43 3.039,7.419; T44 2.29,7.419; T46 1.418,7.357; T48 0.449,7.357; U1 22.944,7.857; U3 21.978,7.857; U47 0.947,7.86; U49 -0.021,7.857; V2 22.445,8.355; V4 21.479,8.352; V6 20.606,8.298; V7 19.855,8.295; V9 19.132,8.298; V10 18.383,8.298; V12 17.635,8.265; V14 16.917,8.295; V15 16.165,8.295; V18 14.946,8.232; V19 14.165,8.232; V21 13.417,8.232; V23 12.635,8.232; V24 11.854,8.232; V26 11.072,8.199; V27 10.291,8.199; V29 9.51,8.199; V31 8.729,8.204; V32 7.947,8.23; V35 6.728,8.263; V36 5.978,8.296; V38 5.258,8.296; V40 4.51,8.296; V41 3.791,8.296; V43 3.038,8.297; V44 2.291,8.297; V46 1.414,8.358; V48 0.446,8.327; W1 22.947,8.86; W3 21.979,8.86; W18 14.941,9.01; W19 14.166,9.015; W21 13.417,9.015; W23 12.606,9.015; W24 11.857,9.015; W26 11.075,9.015; W27 10.293,9.015; W29 9.509,9.014; W31 8.727,9.016; W32 7.946,9.013; W47 0.946,8.863; W49 -0.056,8.863; Y2 22.447,9.324; Y4 21.482,9.324; Y6 20.604,9.172; Y9 19.134,9.172; Y12 17.636,9.168; Y15 16.167,9.168; Y35 6.727,9.17; Y38 5.261,9.17; Y41 3.759,9.172; Y44 2.291,9.17; Y46 1.415,9.326; Y48 0.446,9.354